# Altium schematic symbol library G5LE-1-DC3.SchLib: 1 symbol
Pins are listed as number, name and electrical type; pins without a type are passive.

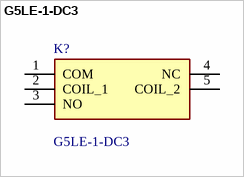
[diagram p0: symbol G5LE-1-DC3]

## G5LE-1-DC3
designator K?
General Purpose Relays SPDT 3VDC Flux Protected; Manufacturer_Name: Omron Electronics; Geometry.Height: 19mm; Mouser Part Number: 653-G5LE-1-DC3; Mouser Price/Stock: https://www.mouser.co.uk/ProductDetail/Omron-Electronics/G5LE-1-DC3?qs=Mrnyg3lK62ERI7jHW9tK%2Fg%3D%3D; Manufacturer_Part_Number: G5LE-1-DC3; Datasheet Link: https://datasheet.datasheetarchive.com/originals/distributors/Datasheets-DGA17/900770.pdf
footprint G5LE1DC3
pins: 1 COM, 2 COIL_1, 3 NO, 4 NC, 5 COIL_2